# Altium footprint library VDR-7.5mm.PcbLib: 1 footprints
Each footprint in its own frame and in the unit in brackets; x right, y up, seen from the top. Pads: shape width x height; smd on the part's side, far side on the other; paste and mask are expansions set on the pad; w line width, h text height; cw(c..) or ccw(c..) is an arc to the next point about the centre after c.
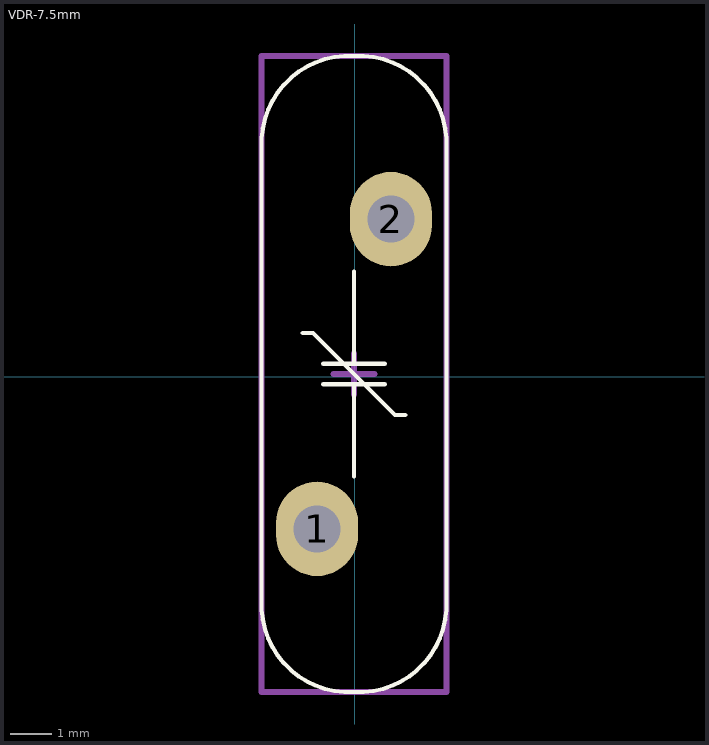
[diagram p0: the footprint, top view; thin cyan lines are the x and y axes]

## VDR-7.5mm [mm]
pads (2):
  oval 2x2.3 hole 1.15: 1(-0.913,-3.705) 2(0.887,3.845)
Top Overlay:
  lines w0.1: -1.263,1.07 -1.013,1.07 0.987,-0.93 1.237,-0.93 ; -0.763,-0.18 0.737,-0.18 ; -0.763,0.32 0.737,0.32 ; -0.013,-2.43 -0.013,-0.18 ; -0.013,0.32 -0.013,2.57 ; -2.263,-5.68 ccw(c-0.138,-5.555) -0.013,-7.68 ccw(c0.112,-5.555) 2.237,-5.68 2.237,5.82 ccw(c0.112,5.695) -0.013,7.82 ccw(c-0.138,5.695) -2.263,5.82 -2.263,-5.68
Mechanical 15:
  lines w0.15: -0.513,0.07 0.487,0.07 ; -0.013,-0.43 -0.013,0.57 ; -2.263,-7.68 2.237,-7.68 2.237,7.82 -2.263,7.82 -2.263,-7.68
3D body "alsrobot-S14K25 MOV.STEP": height 19.5, standoff -2, extent -2.113,-7.705 2.087,7.795